# EAGLE library part 3.5IN_TFT_44 (library ds_displays)
LCD MODULE QD3502
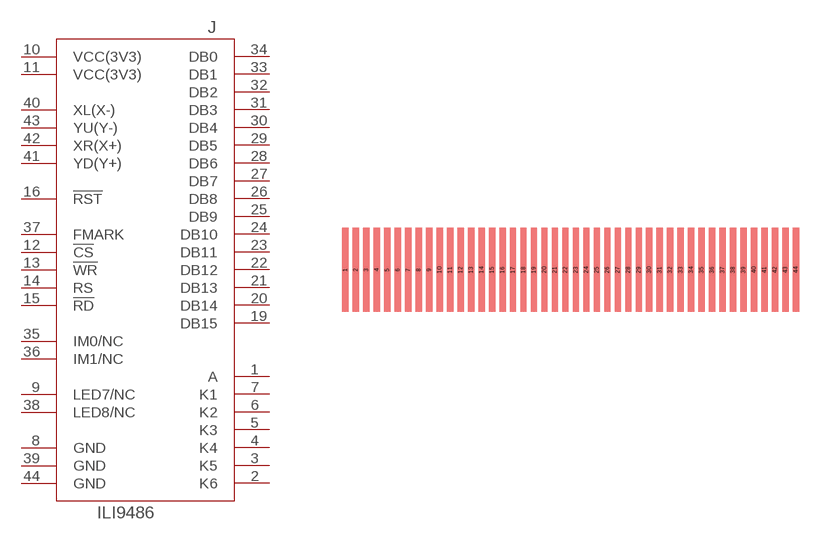
[diagram p7: symbol with the pads of FPC44; footprint FPC44]

Designator prefix J

## 3.5IN_TFT_44  [FPC44]
1  A
2  K6
3  K5
4  K4
5  K3
6  K2
7  K1
8  GND
9  LED7/NC
10  VCC(3V3)
11  VCC(3V3)
12  !CS
13  !WR
14  RS
15  !RD
16  !RST
19  DB15
20  DB14
21  DB13
22  DB12
23  DB11
24  DB10
25  DB9
26  DB8
27  DB7
28  DB6
29  DB5
30  DB4
31  DB3
32  DB2
33  DB1
34  DB0
35  IM0/NC
36  IM1/NC
37  FMARK
38  LED8/NC
39  GND
40  XL(X-)
41  YD(Y+)
42  XR(X+)
43  YU(Y-)
44  GND

## Footprint FPC44 (pad centres in mm)
smd 0.3 x 4: 1 -10.79,0.5; 2 -10.29,0.5; 3 -9.79,0.5; 4 -9.29,0.5; 5 -8.79,0.5; 6 -8.29,0.5; 7 -7.79,0.5; 8 -7.29,0.5; 9 -6.79,0.5; 10 -6.29,0.5; 11 -5.79,0.5; 12 -5.29,0.5; 13 -4.79,0.5; 14 -4.29,0.5; 15 -3.79,0.5; 16 -3.29,0.5; 17 -2.79,0.5; 18 -2.29,0.5; 19 -1.79,0.5; 20 -1.29,0.5; 21 -0.79,0.5; 22 -0.29,0.5; 23 0.21,0.5; 24 0.71,0.5; 25 1.21,0.5; 26 1.71,0.5; 27 2.21,0.5; 28 2.71,0.5; 29 3.21,0.5; 30 3.71,0.5; 31 4.21,0.5; 32 4.71,0.5; 33 5.21,0.5; 34 5.71,0.5; 35 6.21,0.5; 36 6.71,0.5; 37 7.21,0.5; 38 7.71,0.5; 39 8.21,0.5; 40 8.71,0.5; 41 9.21,0.5; 42 9.71,0.5; 43 10.21,0.5; 44 10.71,0.5